# EAGLE library part UX60SA-MB-5ST (library con-usb)
Mini-B Receptacle Hirose
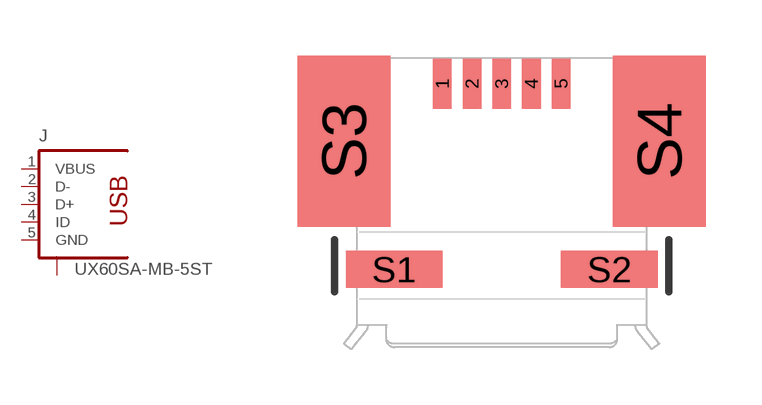
[diagram p14: symbol with the pads of UX60SA-MB-5ST; footprint UX60SA-MB-5ST]

Designator prefix J

## UX60SA-MB-5ST  [UX60SA-MB-5ST]
1  VBUS  pas
2  D-  pas
3  D+  pas
4  ID  pas
5  GND  pas
S1  S1  pas
S2  S2  pas
S3  S3  pas
S4  S4  pas

## Footprint UX60SA-MB-5ST (pad centres in mm)
USB Mini-B UX60S Series, Hirose
smd 0.5 x 1.35: 1 -1.6,5.8; 2 -0.8,5.8; 3 0,5.8; 4 0.8,5.8; 5 1.6,5.8
smd 2.6 x 1: S1 -2.9,0.8; S2 2.9,0.8
smd 2.5 x 4.6: S3 -4.25,4.25; S4 4.25,4.25